# Altium schematic symbol library NET_TIE_2.Schlib: 1 symbol
Pins are listed as number, name and electrical type; pins without a type are passive.

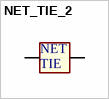
[diagram p0: symbol NET_TIE_2]

## NET_TIE_2
designator J?  (value not drawn)  (net tie, no BOM)
pins: 1, 2
text: NET; TIE